# EAGLE library part AAT3176IDH (library pimoroni-ics)
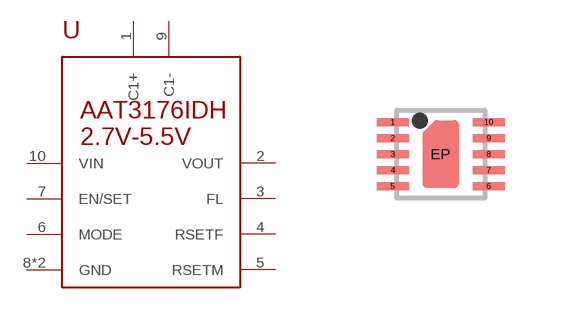
[diagram p75: symbol with the pads of TDFN-10; footprint TDFN-10]

Designator prefix U

## AAT3176IDH  [TDFN-10]
1  C1+
2  VOUT
3  FL
4  RSETF
5  RSETM
6  MODE
7  EN/SET
8  GND
9  C1-
10  VIN
EP  GND

## Footprint TDFN-10 (pad centres in mm)
smd 0.8 x 0.2: 1 -1.2,0.8; 2 -1.2,0.4; 3 -1.2,0; 4 -1.2,-0.4; 5 -1.2,-0.8; 6 1.2,-0.8; 7 1.2,-0.4; 8 1.2,0; 9 1.2,0.4; 10 1.2,0.8
smd 0.4 x 0.4: EP 0,0